# Altium schematic symbol library SJ3-35024K-SMT.SchLib: 1 symbol
Pins are listed as number, name and electrical type; pins without a type are passive.

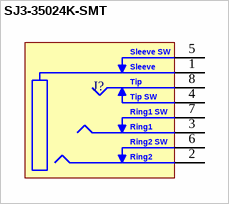
[diagram p0: symbol SJ3-35024K-SMT]

## SJ3-35024K-SMT
designator J?
3.5 mm Right-Angle Stereo Jack, 8 Pin PCB Mount, Isolated Ground
pins: 1, 2, 3, 4, 5, 6, 7, 8
text: Sleeve SW; Sleeve; Tip; Tip SW; Ring1 SW; Ring1; Ring2 SW; Ring2